# Altium schematic symbol library B39162B3520U410.SchLib: 1 symbol
Pins are listed as number, name and electrical type; pins without a type are passive.

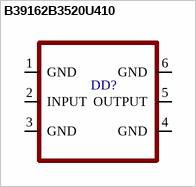
[diagram p0: symbol B39162B3520U410]

## B39162B3520U410
designator DD?
pins: 1 GND, 2 INPUT, 3 GND, 4 GND, 5 OUTPUT, 6 GND